# Altium schematic symbol library MCP665.Schlib: 1 symbol
Pins are listed as number, name and electrical type; pins without a type are passive.

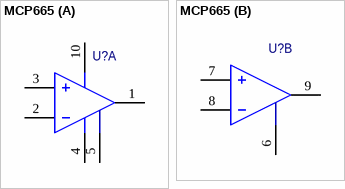
[diagram p0: symbol MCP665]

## MCP665
designator U?
footprint SO-8
part A pins: 1 OUTA, 2 -INA, 3 +INA, 4 V-, 5 ~{CSA}, 10 V+
part B pins: 6 ~{CSB}, 7 +INB, 8 -INB, 9 OUTB